# Altium footprint library PCBLib1.PcbLib: 22 footprints (part 2 of 2)
Each footprint in its own frame and in the unit in brackets; x right, y up, seen from the top. Pads: shape width x height; smd on the part's side, far side on the other; paste and mask are expansions set on the pad; w line width, h text height; cw(c..) or ccw(c..) is an arc to the next point about the centre after c.
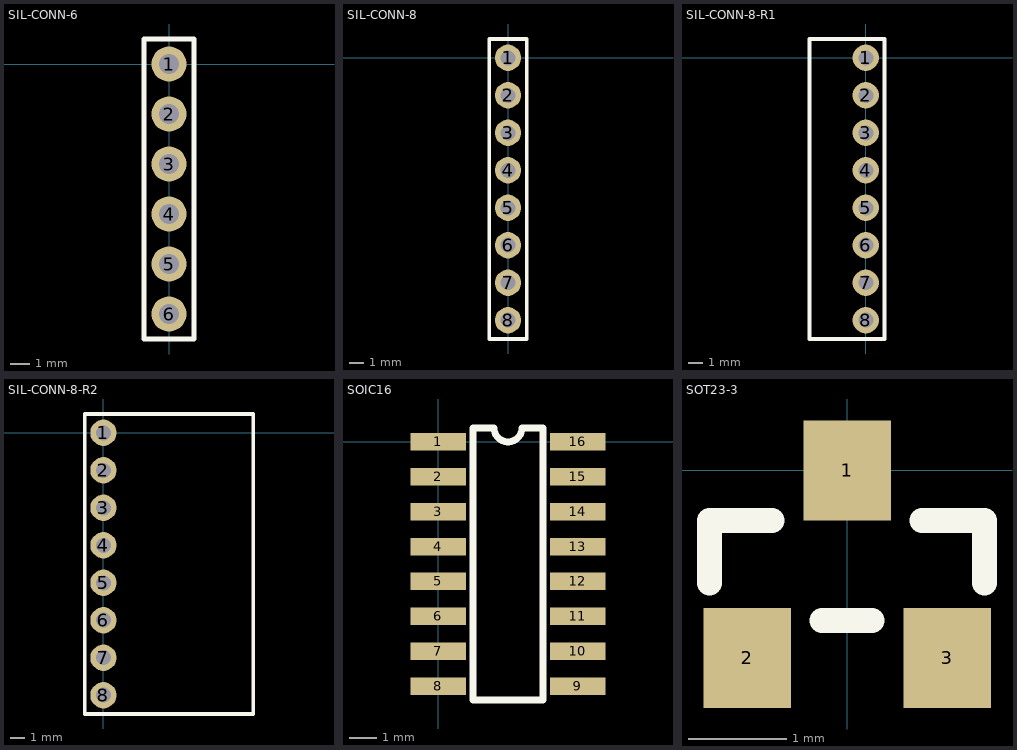
[diagram p1: the footprints below, top view; thin cyan lines are the x and y axes]

## SIL-CONN-6 [mil]
pads (6):
  round 70 hole 40: 1(0,0) 2(0,-100) 3(0,-200) 4(0,-300) 5(0,-400) 6(0,-500)
Top Overlay:
  lines w10: -50,-550 50,-550 50,50 -50,50 -50,-550
3D body: height 336.22, standoff -118.11, extent -49.01,-550 49.01,50

## SIL-CONN-8 [mil]
pads (8):
  round 70 hole 40: 1(0,0) 2(0,-100) 3(0,-200) 4(0,-300) 5(0,-400) 6(0,-500) 7(0,-600) 8(0,-700)
Top Overlay:
  lines w10: -50,-750 50,-750 50,50 -50,50 -50,-750
3D body: height 336.22, standoff -118.11, extent -49.01,-750 49.01,50

## SIL-CONN-8-R1 [mil]
pads (8):
  round 70 hole 40: 1(0,0) 2(0,-100) 3(0,-200) 4(0,-300) 5(0,-400) 6(0,-500) 7(0,-600) 8(0,-700)
Top Overlay:
  lines w10: -150,-750 50,-750 50,50 -150,50 -150,-750
3D body: height 99.02, standoff -118.11, extent -386.22,-750 12.6,50

## SIL-CONN-8-R2 [mil]
pads (8):
  round 70 hole 40: 1(0,0) 2(0,-100) 3(0,-200) 4(0,-300) 5(0,-400) 6(0,-500) 7(0,-600) 8(0,-700)
Top Overlay:
  lines w10: -50,-750 400,-750 400,50 -50,50 -50,-750
3D body: height 99.02, standoff -118.11, extent -14.41,-750 384.41,50

## SOIC16 [mil]
pads (16):
  rect 80x25 smd: 1(0,0) 2(0,-50) 3(0,-100) 4(0,-150) 5(0,-200) 6(0,-250) 7(0,-300) 8(0,-350) 9(200,-350) 10(200,-300) 11(200,-250) 12(200,-200) 13(200,-150) 14(200,-100) 15(200,-50) 16(200,0)
Top Overlay:
  lines w10: 50,-370 150,-370 150,20 120,20 cw(c100,20) 80,20 50,20 50,-370
3D body: height 68.9, standoff 0, extent -14.17,-367.91 214.17,17.91

## SOT23-3 [mil]
pads (3):
  rect 35x40 smd: 1(0,0) 2(-40,-75) 3(40,-75)
Top Overlay:
  lines w10: -55,-45 -55,-20 -30,-20 ; -10,-60 10,-60 ; 30,-20 55,-20 55,-45
3D body: height 38.59, standoff -1.57, extent -57.48,-84.21 57.48,13.27